# Altium schematic symbol library Regulator_Switching.SchLib: 1279 symbols (part 13 of 14)
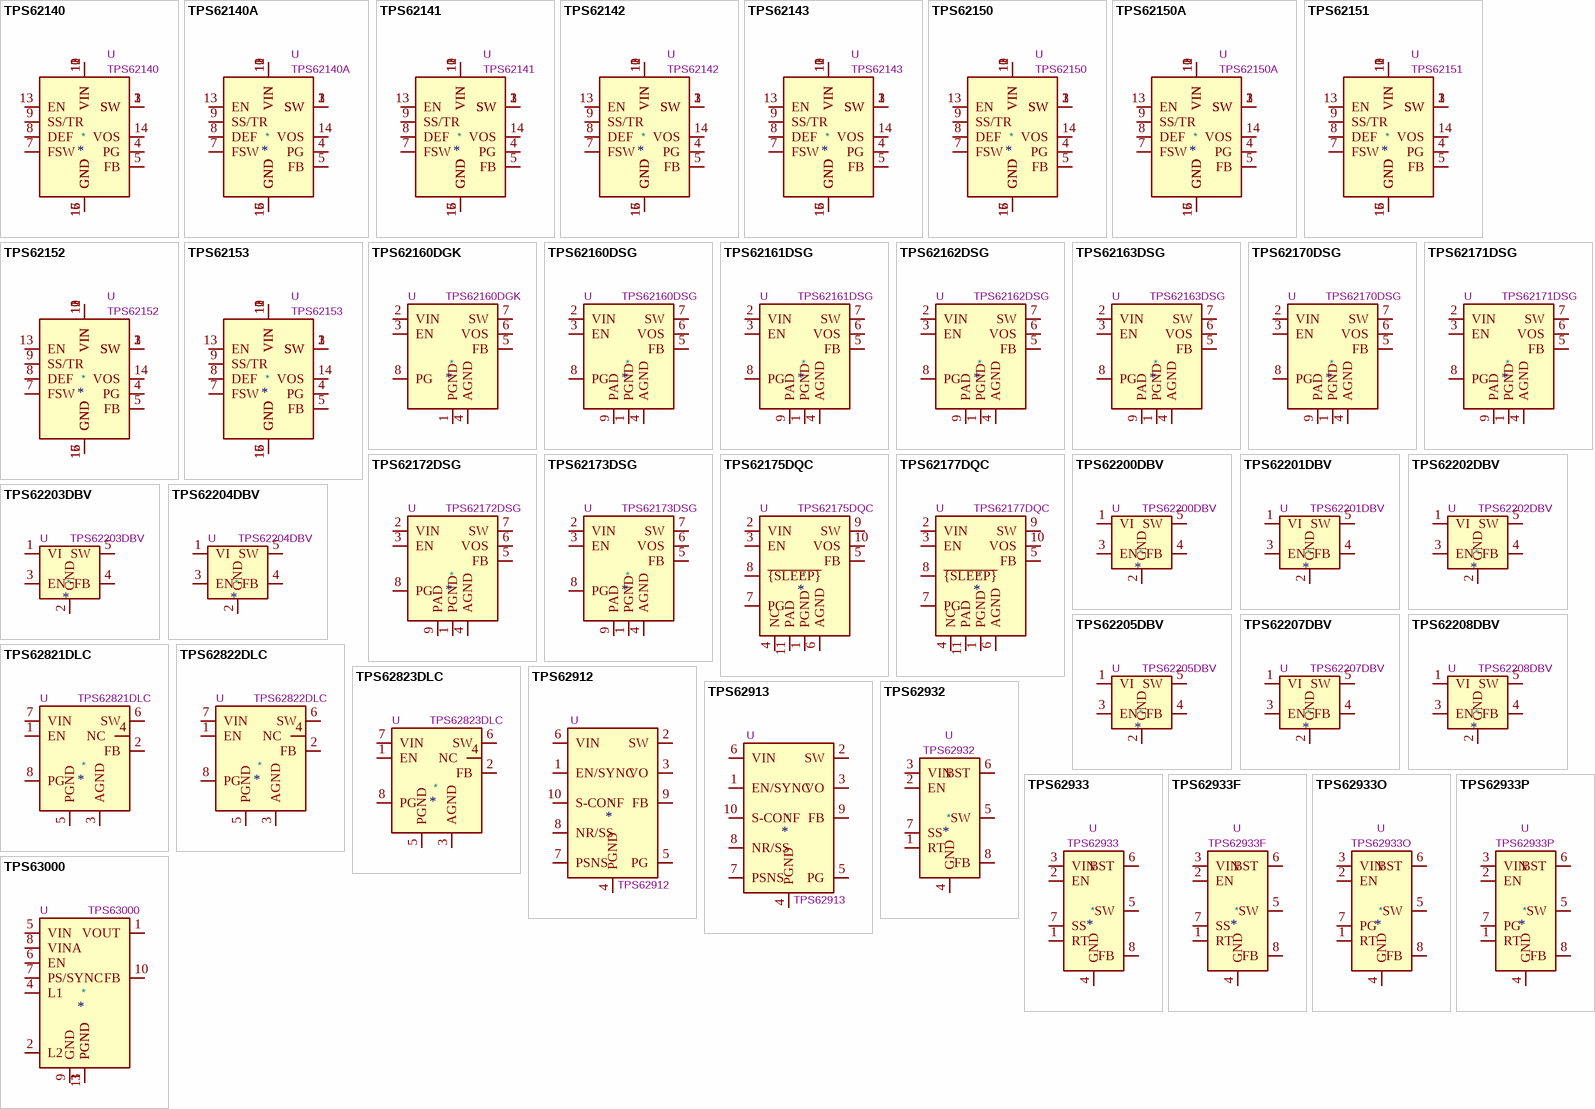
[diagram p44: symbols TPS62140 to TPS63000]

## TPS62912
designator *  value TPS62912  Reference: U
2.2MHz or 1MHz, 2A, Low Noise, Low Ripple, Buck Converter with Integrated Ferrite Bead Filter Compensation, VQFN-HR; ki_keywords: step-down high psrr adjustable; ki_fp_filters: *Texas*RPU0010A*; Footprint: Package_DFN_QFN:Texas_RPU0010A_VQFN-HR-10_2x2mm_P0.5mm; Datasheet: https://www.ti.com/lit/ds/symlink/tps62912.pdf; Description_: 2.2MHz or 1MHz, 2A, Low Noise, Low Ripple, Buck Converter with Integrated Ferrite Bead Filter Compensation, VQFN-HR
pins: 1 EN/SYNC, 2 SW, 3 VO, 4 PGND, 5 PG, 6 VIN, 7 PSNS, 8 NR/SS, 9 FB, 10 S-CONF

## TPS62913
designator *  value TPS62913  Reference: U
2.2MHz or 1MHz, 3A, Low Noise, Low Ripple, Buck Converter with Integrated Ferrite Bead Filter Compensation, VQFN-HR; ki_keywords: step-down high psrr adjustable; ki_fp_filters: *Texas*RPU0010A*; Footprint: Package_DFN_QFN:Texas_RPU0010A_VQFN-HR-10_2x2mm_P0.5mm; Datasheet: https://www.ti.com/lit/ds/symlink/tps62912.pdf; Description_: 2.2MHz or 1MHz, 3A, Low Noise, Low Ripple, Buck Converter with Integrated Ferrite Bead Filter Compensation, VQFN-HR
pins: 1 EN/SYNC, 2 SW, 3 VO, 4 PGND, 5 PG, 6 VIN, 7 PSNS, 8 NR/SS, 9 FB, 10 S-CONF

## TPS62932
designator *  value TPS62932  Reference: U
3.8-30V, 2A  Synchronous Buck Converters with pulse frequency modulation (PFM), SOT583-8; ki_keywords: synchronous buck converter pulse frequency modulation; ki_fp_filters: SOT?583*; Footprint: Package_TO_SOT_SMD:SOT-583-8; Datasheet: https://www.ti.com/lit/ds/symlink/tps62933.pdf; Description_: 3.8-30V, 2A  Synchronous Buck Converters with pulse frequency modulation (PFM), SOT583-8
pins: 1 RT, 2 EN, 3 VIN, 4 GND, 5 SW, 6 BST, 7 SS, 8 FB

## TPS62933
designator *  value TPS62933  Reference: U
3.8-30V, 3A Synchronous Buck Converters with pulse frequency modulation (PFM), SOT583-8; ki_keywords: synchronous buck converter pulse frequency modulation; ki_fp_filters: SOT?583*; Footprint: Package_TO_SOT_SMD:SOT-583-8; Datasheet: https://www.ti.com/lit/ds/symlink/tps62933.pdf; Description_: 3.8-30V, 3A Synchronous Buck Converters with pulse frequency modulation (PFM), SOT583-8
pins: 1 RT, 2 EN, 3 VIN, 4 GND, 5 SW, 6 BST, 7 SS, 8 FB

## TPS62933F
designator *  value TPS62933F  Reference: U
3.8-30V, 3A Synchronous Buck Converters with forced continuous conduction mode (FCCM), SOT583-8; ki_keywords: synchronous buck converter forced continuous conduction mode; ki_fp_filters: SOT?583*; Footprint: Package_TO_SOT_SMD:SOT-583-8; Datasheet: https://www.ti.com/lit/ds/symlink/tps62933.pdf; Description_: 3.8-30V, 3A Synchronous Buck Converters with forced continuous conduction mode (FCCM), SOT583-8
pins: 1 RT, 2 EN, 3 VIN, 4 GND, 5 SW, 6 BST, 7 SS, 8 FB

## TPS62933O
designator *  value TPS62933O  Reference: U
3.8-30V, 3A Synchronous Buck Converters with out of audio (OOA) mode and power good, SOT583-8; ki_keywords: synchronous buck converter out of audio power good; ki_fp_filters: SOT?583*; Footprint: Package_TO_SOT_SMD:SOT-583-8; Datasheet: https://www.ti.com/lit/ds/symlink/tps62933.pdf; Description_: 3.8-30V, 3A Synchronous Buck Converters with out of audio (OOA) mode and power good, SOT583-8
pins: 1 RT, 2 EN, 3 VIN, 4 GND, 5 SW, 6 BST, 7 PG, 8 FB

## TPS62933P
designator *  value TPS62933P  Reference: U
3.8-30V, 3A Synchronous Buck Converters with pulse frequency modulation (PFM) and power good, SOT583-8; ki_keywords: synchronous buck converter pulse frequency modulation power good; ki_fp_filters: SOT?583*; Footprint: Package_TO_SOT_SMD:SOT-583-8; Datasheet: https://www.ti.com/lit/ds/symlink/tps62933.pdf; Description_: 3.8-30V, 3A Synchronous Buck Converters with pulse frequency modulation (PFM) and power good, SOT583-8
pins: 1 RT, 2 EN, 3 VIN, 4 GND, 5 SW, 6 BST, 7 PG, 8 FB

## TPS63000
designator *  value TPS63000  Reference: U
Buck-Boost Converter, 1.8-5.5V Input Voltage, 1.8A Switch Current, Adjustable 1.2-5.5V Output Voltage, VSON-10; ki_keywords: Buck-Boost adjustable converter; ki_fp_filters: Texas*DRC0010J*; Footprint: Package_SON:Texas_DRC0010J_ThermalVias; Datasheet: http://www.ti.com/lit/ds/symlink/tps63000.pdf; Description_: Buck-Boost Converter, 1.8-5.5V Input Voltage, 1.8A Switch Current, Adjustable 1.2-5.5V Output Voltage, VSON-10
pins: 1 VOUT, 2 L2, 3 PGND, 4 L1, 5 VIN, 6 EN, 7 PS/SYNC, 8 VINA, 9 GND, 10 FB, 11 PGND

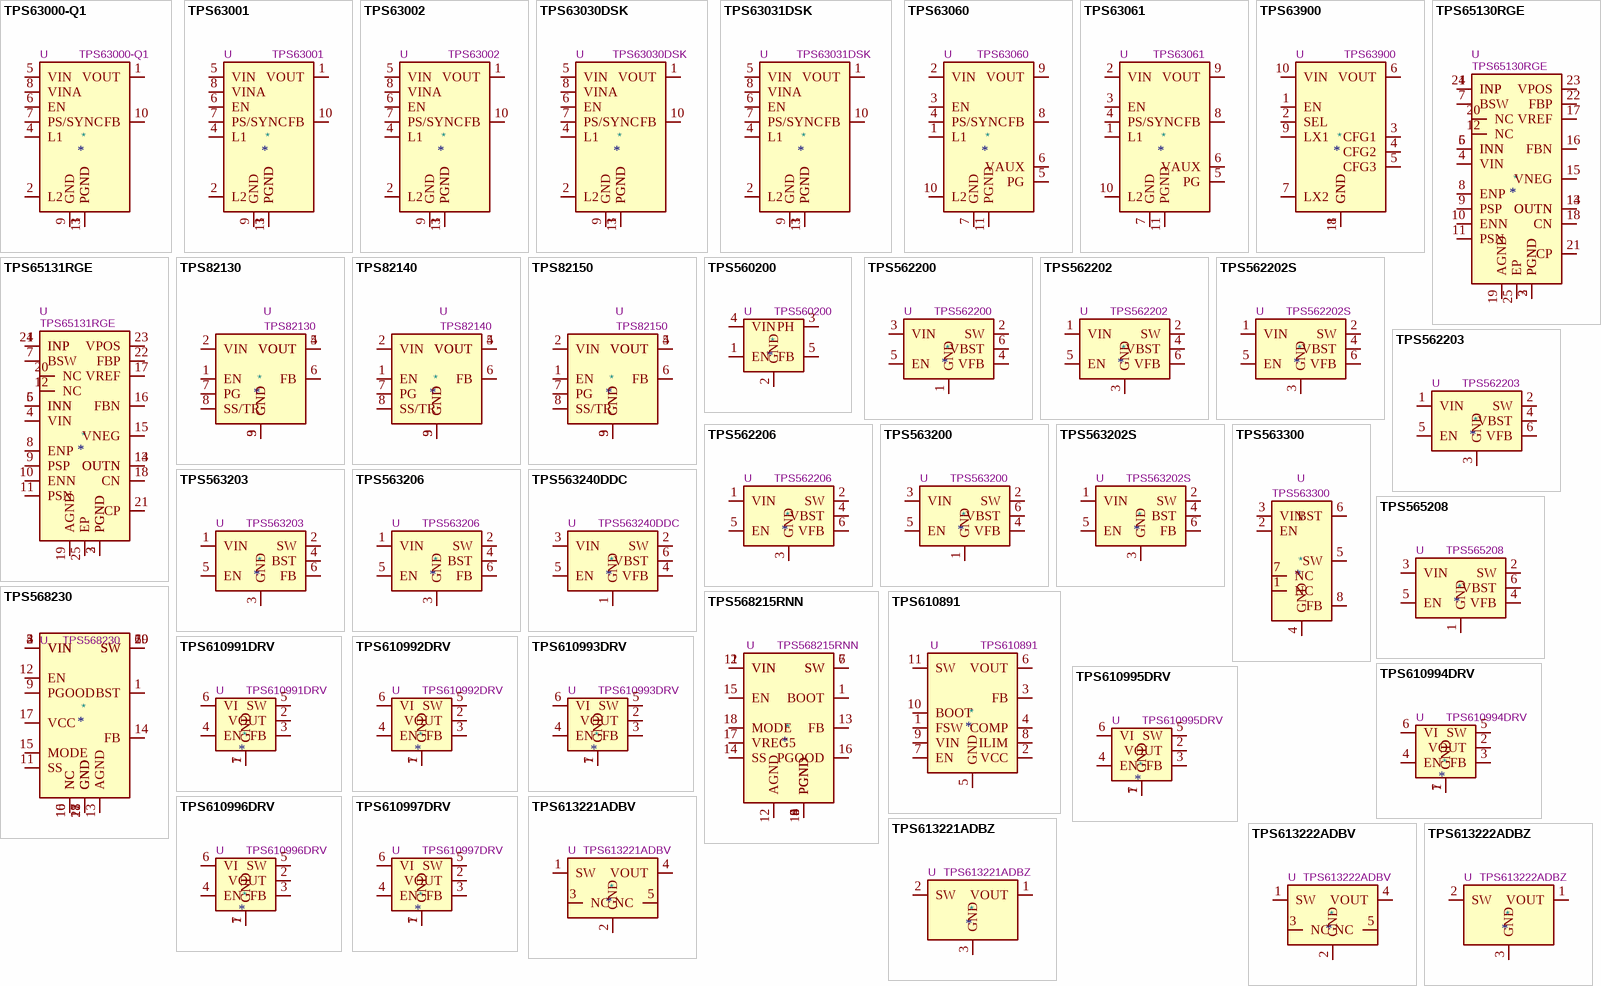
[diagram p29: symbols TPS63000-Q1 to TPS613222ADBZ]

## TPS63000-Q1
designator *  value TPS63000-Q1  Reference: U
Buck-Boost Converter, 1.8-5.5V Input Voltage, 1.8A Switch Current, Adjustable 1.2-5.5V Output Voltage, Automotive, VSON-10; ki_keywords: Buck-Boost adjustable converter; ki_fp_filters: Texas*DRC0010J*; Footprint: Package_SON:Texas_DRC0010J_ThermalVias; Datasheet: http://www.ti.com/lit/ds/symlink/tps63000-q1.pdf; Description_: Buck-Boost Converter, 1.8-5.5V Input Voltage, 1.8A Switch Current, Adjustable 1.2-5.5V Output Voltage, Automotive, VSON-10
pins: 1 VOUT, 2 L2, 3 PGND, 4 L1, 5 VIN, 6 EN, 7 PS/SYNC, 8 VINA, 9 GND, 10 FB, 11 PGND

## TPS63001
designator *  value TPS63001  Reference: U
Buck-Boost Converter, 1.8-5.5V Input Voltage, 1.7A Switch Current, 3.3V Output Voltage, VSON-10; ki_keywords: Buck-Boost fixed 3.3V converter; ki_fp_filters: Texas*DRC0010J*; Footprint: Package_SON:Texas_DRC0010J_ThermalVias; Datasheet: http://www.ti.com/lit/ds/symlink/tps63000.pdf; Description_: Buck-Boost Converter, 1.8-5.5V Input Voltage, 1.7A Switch Current, 3.3V Output Voltage, VSON-10
pins: 1 VOUT, 2 L2, 3 PGND, 4 L1, 5 VIN, 6 EN, 7 PS/SYNC, 8 VINA, 9 GND, 10 FB, 11 PGND

## TPS63002
designator *  value TPS63002  Reference: U
Buck-Boost Converter, 1.8-5.5V Input Voltage, 1.7A Switch Current, 5V Output Voltage, VSON-10; ki_keywords: Buck-Boost fixed 5V converter; ki_fp_filters: Texas*DRC0010J*; Footprint: Package_SON:Texas_DRC0010J_ThermalVias; Datasheet: http://www.ti.com/lit/ds/symlink/tps63000.pdf; Description_: Buck-Boost Converter, 1.8-5.5V Input Voltage, 1.7A Switch Current, 5V Output Voltage, VSON-10
pins: 1 VOUT, 2 L2, 3 PGND, 4 L1, 5 VIN, 6 EN, 7 PS/SYNC, 8 VINA, 9 GND, 10 FB, 11 PGND

## TPS63030DSK
designator *  value TPS63030DSK  Reference: U
Buck-Boost Converter, 1.8-5.5V Input Voltage, 1A Switch Current, Adjustable Output Voltage, VSON-10 (DSK0010A); ki_keywords: Buck-Boost adjustable converter; ki_fp_filters: WSON*1EP*2.5x2.5mm*P0.5mm*EP1.2x2mm*; Footprint: Package_SON:WSON-10-1EP_2.5x2.5mm_P0.5mm_EP1.2x2mm; Datasheet: http://www.ti.com/lit/ds/symlink/tps63030.pdf; Description_: Buck-Boost Converter, 1.8-5.5V Input Voltage, 1A Switch Current, Adjustable Output Voltage, VSON-10 (DSK0010A)
pins: 1 VOUT, 2 L2, 3 PGND, 4 L1, 5 VIN, 6 EN, 7 PS/SYNC, 8 VINA, 9 GND, 10 FB, 11 PGND

## TPS63031DSK
designator *  value TPS63031DSK  Reference: U
Buck-Boost Converter, 1.8-5.5V Input Voltage, 1A Switch Current, 3.3V Output Voltage, VSON-10 (DSK0010A); ki_keywords: Buck-Boost fixed 3.3V converter; ki_fp_filters: WSON*1EP*2.5x2.5mm*P0.5mm*EP1.2x2mm*; Footprint: Package_SON:WSON-10-1EP_2.5x2.5mm_P0.5mm_EP1.2x2mm; Datasheet: http://www.ti.com/lit/ds/symlink/tps63031.pdf; Description_: Buck-Boost Converter, 1.8-5.5V Input Voltage, 1A Switch Current, 3.3V Output Voltage, VSON-10 (DSK0010A)
pins: 1 VOUT, 2 L2, 3 PGND, 4 L1, 5 VIN, 6 EN, 7 PS/SYNC, 8 VINA, 9 GND, 10 FB, 11 PGND

## TPS63060
designator *  value TPS63060  Reference: U
Buck-Boost Converter, 2.5-12V Input Voltage, 2-A Switch Current, Adjustable 2.5-8V Output Voltage, S-PWSON-N10; ki_keywords: Buck-Boost adjustable converter; ki_fp_filters: Texas*S*PWSON*N10*; Footprint: Package_SON:Texas_S-PWSON-N10_ThermalVias; Datasheet: http://www.ti.com/lit/ds/symlink/tps63060.pdf; Description_: Buck-Boost Converter, 2.5-12V Input Voltage, 2-A Switch Current, Adjustable 2.5-8V Output Voltage, S-PWSON-N10
pins: 1 L1, 2 VIN, 3 EN, 4 PS/SYNC, 5 PG, 6 VAUX, 7 GND, 8 FB, 9 VOUT, 10 L2, 11 PGND

## TPS63061
designator *  value TPS63061  Reference: U
Buck-Boost Converter, 2.5-12V Input Voltage, 2-A Switch Current, Fixed 5V Output Voltage, S-PWSON-10; ki_keywords: Buck-Boost converter 5V; ki_fp_filters: Texas*S*PWSON*N10*; Footprint: Package_SON:Texas_S-PWSON-N10_ThermalVias; Datasheet: http://www.ti.com/lit/ds/symlink/tps63060.pdf; Description_: Buck-Boost Converter, 2.5-12V Input Voltage, 2-A Switch Current, Fixed 5V Output Voltage, S-PWSON-10
pins: 1 L1, 2 VIN, 3 EN, 4 PS/SYNC, 5 PG, 6 VAUX, 7 GND, 8 FB, 9 VOUT, 10 L2, 11 PGND

## TPS63900
designator *  value TPS63900  Reference: U
Buck-Boost Converter, 1.8-5.5V Input Voltage, 0.4A Switch Current, Adjustable 1.8-5V Output Voltage, WSON-10; ki_keywords: Buck-Boost adjustable converter; ki_fp_filters: WSON*10*1EP*2.5x2.5*P0.5*; Footprint: Package_SON:WSON-10-1EP_2.5x2.5mm_P0.5mm_EP1.2x2mm_ThermalVias; Datasheet: https://www.ti.com/lit/ds/symlink/tps63900.pdf; Description_: Buck-Boost Converter, 1.8-5.5V Input Voltage, 0.4A Switch Current, Adjustable 1.8-5V Output Voltage, WSON-10
pins: 1 EN, 2 SEL, 3 CFG1, 4 CFG2, 5 CFG3, 6 VOUT, 7 LX2, 8 GND, 9 LX1, 10 VIN, 11 GND

## TPS65130RGE
designator *  value TPS65130RGE  Reference: U
Split-Rail Converter with Dual, Positive and Negative Outputs (300mA typ, Switch Current Limit 800mA typ), 2.7-5.5V, VQFN-24; ki_keywords: split-rail switching dual positive negative; ki_fp_filters: VQFN*1EP*4x4mm*P0.5mm*; Footprint: Package_DFN_QFN:VQFN-24-1EP_4x4mm_P0.5mm_EP2.45x2.45mm_ThermalVias; Datasheet: http://www.ti.com/lit/ds/symlink/tps65130.pdf; Description_: Split-Rail Converter with Dual, Positive and Negative Outputs (300mA typ, Switch Current Limit 800mA typ), 2.7-5.5V, VQFN-24
pins: 1 INP, 2 PGND, 3 PGND, 4 VIN, 5 INN, 6 INN, 7 BSW, 8 ENP, 9 PSP, 10 ENN, 11 PSN, 12 NC, 13 OUTN, 14 OUTN, 15 VNEG, 16 FBN, 17 VREF, 18 CN, 19 AGND, 20 NC, 21 CP, 22 FBP, 23 VPOS, 24 INP, 25 EP

## TPS65131RGE
designator *  value TPS65131RGE  Reference: U
Split-Rail Converter with Dual, Positive and Negative Outputs (750mA typ, Switch Current Limit 1950mA typ),), 2.7-5.5V, VQFN-24; ki_keywords: split-rail switching dual positive negative; ki_fp_filters: VQFN*1EP*4x4mm*P0.5mm*; Footprint: Package_DFN_QFN:VQFN-24-1EP_4x4mm_P0.5mm_EP2.45x2.45mm_ThermalVias; Datasheet: http://www.ti.com/lit/ds/symlink/tps65130.pdf; Description_: Split-Rail Converter with Dual, Positive and Negative Outputs (750mA typ, Switch Current Limit 1950mA typ),), 2.7-5.5V, VQFN-24
pins: 1 INP, 2 PGND, 3 PGND, 4 VIN, 5 INN, 6 INN, 7 BSW, 8 ENP, 9 PSP, 10 ENN, 11 PSN, 12 NC, 13 OUTN, 14 OUTN, 15 VNEG, 16 FBN, 17 VREF, 18 CN, 19 AGND, 20 NC, 21 CP, 22 FBP, 23 VPOS, 24 INP, 25 EP

## TPS82130
designator *  value TPS82130  Reference: U
17V Input 3A Step-Down Converter MicroSiP Module with Integrated Inductor, μSiL-8; ki_keywords: 17V 3A Step-down Buck Module; ki_fp_filters: Texas*MicroSiP*1EP*2.8x3mm*P0.65mm*; Footprint: Package_LGA:Texas_SIL0008D_MicroSiP-8-1EP_2.8x3mm_P0.65mm_EP1.1x1.9mm_ThermalVias; Datasheet: http://www.ti.com/lit/ds/symlink/tps82130.pdf; Description_: 17V Input 3A Step-Down Converter MicroSiP Module with Integrated Inductor, μSiL-8
pins: 1 EN, 2 VIN, 3 GND, 4 VOUT, 5 VOUT, 6 FB, 7 PG, 8 SS/TR, 9 GND

## TPS82140
designator *  value TPS82140  Reference: U
17V Input 2A Step-Down Converter MicroSiP Module with Integrated Inductor, μSiL-8; ki_keywords: 17V 2A Step-down Buck Module; ki_fp_filters: Texas*MicroSiP*1EP*2.8x3mm*P0.65mm*; Footprint: Package_LGA:Texas_SIL0008D_MicroSiP-8-1EP_2.8x3mm_P0.65mm_EP1.1x1.9mm_ThermalVias; Datasheet: http://www.ti.com/lit/ds/symlink/tps82140.pdf; Description_: 17V Input 2A Step-Down Converter MicroSiP Module with Integrated Inductor, μSiL-8
pins: 1 EN, 2 VIN, 3 GND, 4 VOUT, 5 VOUT, 6 FB, 7 PG, 8 SS/TR, 9 GND

## TPS82150
designator *  value TPS82150  Reference: U
17V Input 1A Step-Down Converter MicroSiP Module with Integrated Inductor, μSiL-8; ki_keywords: 17V 1A Step-down Buck Module; ki_fp_filters: Texas*MicroSiP*1EP*2.8x3mm*P0.65mm*; Footprint: Package_LGA:Texas_SIL0008D_MicroSiP-8-1EP_2.8x3mm_P0.65mm_EP1.1x1.9mm_ThermalVias; Datasheet: http://www.ti.com/lit/ds/symlink/tps82150.pdf; Description_: 17V Input 1A Step-Down Converter MicroSiP Module with Integrated Inductor, μSiL-8
pins: 1 EN, 2 VIN, 3 GND, 4 VOUT, 5 VOUT, 6 FB, 7 PG, 8 SS/TR, 9 GND

## TPS560200
designator *  value TPS560200  Reference: U
500mA, Synchronous Step-Down Converter With, Adjustable Output Voltage, 4.5-17V Input Voltage, SOT-23-5; ki_keywords: Voltage regulator switching buck fixed output analog; ki_fp_filters: SOT?23*; Footprint: Package_TO_SOT_SMD:SOT-23-5; Datasheet: http://www.ti.com/lit/ds/symlink/tps560200.pdf; Description_: 500mA, Synchronous Step-Down Converter With, Adjustable Output Voltage, 4.5-17V Input Voltage, SOT-23-5
pins: 1 EN, 2 GND, 3 PH, 4 VIN, 5 FB

## TPS562200
designator *  value TPS562200  Reference: U
2A Synchronous Step-Down Voltage Regulator, Adjustable Output Voltage, 4.5-17V Input Voltage, SOT-23-6; ki_keywords: step-down dcdc voltage regulator; ki_fp_filters: SOT?23*; Footprint: Package_TO_SOT_SMD:SOT-23-6; Datasheet: http://www.ti.com/lit/ds/symlink/tps563200.pdf; Description_: 2A Synchronous Step-Down Voltage Regulator, Adjustable Output Voltage, 4.5-17V Input Voltage, SOT-23-6
pins: 1 GND, 2 SW, 3 VIN, 4 VFB, 5 EN, 6 VBST

## TPS562202
designator *  value TPS562202  Reference: U
2A Synchronous Step-Down Voltage Regulator 580kHz, adjustable output voltage, 4.5-17V Input Voltage, 0.804V-7V Output Voltage, SOT-563; ki_keywords: step-down dcdc buck; ki_fp_filters: SOT?563*; Footprint: Package_TO_SOT_SMD:SOT-563; Datasheet: https://www.ti.com/lit/gpn/tps562202; Description_: 2A Synchronous Step-Down Voltage Regulator 580kHz, adjustable output voltage, 4.5-17V Input Voltage, 0.804V-7V Output Voltage, SOT-563
pins: 1 VIN, 2 SW, 3 GND, 4 VBST, 5 EN, 6 VFB

## TPS562202S
designator *  value TPS562202S  Reference: U
2A Synchronous Step-Down Voltage Regulator 580kHz, Adjustable Output Voltage, 4.5-17V Input Voltage, 0.804V-7V Output Voltage, SOT-563; ki_keywords: step-down dcdc buck; ki_fp_filters: SOT?563*; Footprint: Package_TO_SOT_SMD:SOT-563; Datasheet: https://www.ti.com/lit/ds/symlink/tps562202s.pdf; Description_: 2A Synchronous Step-Down Voltage Regulator 580kHz, Adjustable Output Voltage, 4.5-17V Input Voltage, 0.804V-7V Output Voltage, SOT-563
pins: 1 VIN, 2 SW, 3 GND, 4 VBST, 5 EN, 6 VFB

## TPS562203
designator *  value TPS562203  Reference: U
2A Synchronous Step-Down Voltage Regulator 600kHz, Adjustable Output Voltage, 4.5-17V Input Voltage, 0.6V-7V Output Voltage, SOT-563; ki_keywords: step-down dcdc buck; ki_fp_filters: SOT?563*; Footprint: Package_TO_SOT_SMD:SOT-563; Datasheet: https://www.ti.com/lit/ds/symlink/tps562203.pdf; Description_: 2A Synchronous Step-Down Voltage Regulator 600kHz, Adjustable Output Voltage, 4.5-17V Input Voltage, 0.6V-7V Output Voltage, SOT-563
pins: 1 VIN, 2 SW, 3 GND, 4 VBST, 5 EN, 6 VFB

## TPS562206
designator *  value TPS562206  Reference: U
2A Synchronous Step-Down Voltage Regulator 600kHz, Adjustable Output Voltage, 4.5-17V Input Voltage, 0.6V-7V Output Voltage, SOT-563; ki_keywords: step-down dcdc buck; ki_fp_filters: SOT?563*; Footprint: Package_TO_SOT_SMD:SOT-563; Datasheet: https://www.ti.com/lit/ds/symlink/tps562203.pdf; Description_: 2A Synchronous Step-Down Voltage Regulator 600kHz, Adjustable Output Voltage, 4.5-17V Input Voltage, 0.6V-7V Output Voltage, SOT-563
pins: 1 VIN, 2 SW, 3 GND, 4 VBST, 5 EN, 6 VFB

## TPS563200
designator *  value TPS563200  Reference: U
3A Synchronous Step-Down Voltage Regulator, Adjustable Output Voltage, 4.5-17V Input Voltage, SOT-23-6; ki_keywords: step-down dcdc voltage regulator; ki_fp_filters: SOT?23*; Footprint: Package_TO_SOT_SMD:SOT-23-6; Datasheet: http://www.ti.com/lit/ds/symlink/tps563200.pdf; Description_: 3A Synchronous Step-Down Voltage Regulator, Adjustable Output Voltage, 4.5-17V Input Voltage, SOT-23-6
pins: 1 GND, 2 SW, 3 VIN, 4 VFB, 5 EN, 6 VBST

## TPS563202S
designator *  value TPS563202S  Reference: U
3A Synchronous Step-Down Voltage Regulator, Adjustable Output Voltage, 4.3-17V Input Voltage, 0.806-7V Output Voltage, SOT-563; ki_keywords: step-down dcdc voltage regulator; ki_fp_filters: SOT?563*; Footprint: Package_TO_SOT_SMD:SOT-563; Datasheet: https://www.ti.com/lit/ds/symlink/tps563202s.pdf; Description_: 3A Synchronous Step-Down Voltage Regulator, Adjustable Output Voltage, 4.3-17V Input Voltage, 0.806-7V Output Voltage, SOT-563
pins: 1 VIN, 2 SW, 3 GND, 4 BST, 5 EN, 6 FB

## TPS563203
designator *  value TPS563203  Reference: U
3A Synchronous Step-Down Voltage Regulator, Adjustable Output Voltage, 4.2-17V Input Voltage, 0.6-7V Output Voltage, Eco mode, SOT-563; ki_keywords: step-down dcdc voltage regulator; ki_fp_filters: SOT?563*; Footprint: Package_TO_SOT_SMD:SOT-563; Datasheet: https://www.ti.com/lit/ds/symlink/tps563203.pdf; Description_: 3A Synchronous Step-Down Voltage Regulator, Adjustable Output Voltage, 4.2-17V Input Voltage, 0.6-7V Output Voltage, Eco mode, SOT-563
pins: 1 VIN, 2 SW, 3 GND, 4 BST, 5 EN, 6 FB

## TPS563206
designator *  value TPS563206  Reference: U
3A Synchronous Step-Down Voltage Regulator, Adjustable Output Voltage, 4.2-17V Input Voltage, 0.6-7V Output Voltage, FCCM mode, SOT-563; ki_keywords: step-down dcdc voltage regulator; ki_fp_filters: SOT?563*; Footprint: Package_TO_SOT_SMD:SOT-563; Datasheet: https://www.ti.com/lit/ds/symlink/tps563206.pdf; Description_: 3A Synchronous Step-Down Voltage Regulator, Adjustable Output Voltage, 4.2-17V Input Voltage, 0.6-7V Output Voltage, FCCM mode, SOT-563
pins: 1 VIN, 2 SW, 3 GND, 4 BST, 5 EN, 6 FB

## TPS563240DDC
designator *  value TPS563240DDC  Reference: U
3A Synchronous Step-Down Voltage Regulator, Adjustable Output Voltage, 4.5-17V Input Voltage, SOT-23-6; ki_keywords: step-down dcdc voltage regulator; ki_fp_filters: SOT?23*; Footprint: Package_TO_SOT_SMD:SOT-23-6; Datasheet: www.ti.com/lit/ds/symlink/tps563240.pdf; Description_: 3A Synchronous Step-Down Voltage Regulator, Adjustable Output Voltage, 4.5-17V Input Voltage, SOT-23-6
pins: 1 GND, 2 SW, 3 VIN, 4 VFB, 5 EN, 6 VBST

## TPS563300
designator *  value TPS563300  Reference: U
3.8-28V, 3A Synchronous Buck Converters with pulse frequency modulation (PFM), SOT583-8; ki_keywords: synchronous buck converter pulse frequency modulation; ki_fp_filters: SOT?583*; Footprint: Package_TO_SOT_SMD:SOT-583-8; Datasheet: https://www.ti.com/lit/ds/symlink/tps563300.pdf; Description_: 3.8-28V, 3A Synchronous Buck Converters with pulse frequency modulation (PFM), SOT583-8
pins: 1 NC, 2 EN, 3 VIN, 4 GND, 5 SW, 6 BST, 7 NC, 8 FB

## TPS565208
designator *  value TPS565208  Reference: U
5A Synchronous Step-Down Voltage Regulator, Adjustable Output Voltage, 4.5-17V Input Voltage, SOT-23-6; ki_keywords: step-down dcdc voltage regulator; ki_fp_filters: SOT?23*; Footprint: Package_TO_SOT_SMD:SOT-23-6; Datasheet: http://www.ti.com/lit/ds/symlink/tps565208.pdf; Description_: 5A Synchronous Step-Down Voltage Regulator, Adjustable Output Voltage, 4.5-17V Input Voltage, SOT-23-6
pins: 1 GND, 2 SW, 3 VIN, 4 VFB, 5 EN, 6 VBST

## TPS568215RNN
designator *  value TPS568215RNN  Reference: U
4.5V-17V Input, 8A Synchronous Step-Down SWIFT Converter, Adjustable Output, 400kHz/800kHz/1.2MHz Switching Frequency, Texas VQFN-18; ki_keywords: switching buck converter step-down; ki_fp_filters: Texas*RNN0018A*; Footprint: Package_DFN_QFN:Texas_RNN0018A; Datasheet: http://www.ti.com/lit/ds/symlink/tps568215.pdf; Description_: 4.5V-17V Input, 8A Synchronous Step-Down SWIFT Converter, Adjustable Output, 400kHz/800kHz/1.2MHz Switching Frequency, Texas VQFN-18
pins: 1 BOOT, 2 VIN, 3 PGND, 4 PGND, 5 PGND, 6 SW, 7 SW, 8 PGND, 9 PGND, 10 PGND, 11 VIN, 12 AGND, 13 FB, 14 SS, 15 EN, 16 PGOOD, 17 VREG5, 18 MODE

## TPS568230
designator *  value TPS568230  Reference: U
4.5V to 18V Input, 8A Synchronous Step-Down Voltage Regulator, VQFN-20; ki_keywords: switching DC-DC-converter; ki_fp_filters: Texas*RJE0020A*VQFN*1EP*3x3mm*P0.45mm*EP0.675x0.76mm*; Footprint: Package_DFN_QFN:Texas_RJE0020A_VQFN-20-1EP_3x3mm_P0.45mm_EP0.675x0.76mm; Datasheet: https://www.ti.com/lit/gpn/tps568230; Description_: 4.5V to 18V Input, 8A Synchronous Step-Down Voltage Regulator, VQFN-20
pins: 1 BST, 2 VIN, 3 VIN, 4 VIN, 5 VIN, 6 SW, 7 GND, 8 GND, 9 PGOOD, 10 NC, 11 SS, 12 EN, 13 AGND, 14 FB, 15 MODE, 16 NC, 17 VCC, 18 GND, 19 SW, 20 SW, 21 GND

## TPS610891
designator *  value TPS610891  Reference: U
7A Boost Converters, Adjustable output voltage (ForcedPWM), input 2.7 to 12V , output 4.5 to 12.6V, VQFN-11; ki_keywords: Adjustable 7A boost converter; ki_fp_filters: Texas*VQFN?RNR0011A?11*; Footprint: Package_DFN_QFN:Texas_VQFN-RNR0011A-11; Datasheet: http://www.ti.com/lit/ds/symlink/tps61089.pdf; Description_: 7A Boost Converters, Adjustable output voltage (ForcedPWM), input 2.7 to 12V , output 4.5 to 12.6V, VQFN-11
pins: 1 FSW, 2 VCC, 3 FB, 4 COMP, 5 GND, 6 VOUT, 7 EN, 8 ILIM, 9 VIN, 10 BOOT, 11 SW

## TPS610991DRV
designator *  value TPS610991DRV  Reference: U
Boost Converter, 0.7-5.5V Input Voltage, 1A Switch Current, Fixed 1.8V Output Voltage, WSON-6; ki_keywords: Step-Up DC-DC Converter; ki_fp_filters: WSON*1EP*2x2mm*P0.65mm*; Footprint: Package_SON:WSON-6-1EP_2x2mm_P0.65mm_EP1x1.6mm; Datasheet: https://www.ti.com/lit/gpn/TPS61099; Description_: Boost Converter, 0.7-5.5V Input Voltage, 1A Switch Current, Fixed 1.8V Output Voltage, WSON-6
pins: 1 GND, 2 VOUT, 3 FB, 4 EN, 5 SW, 6 VI, 7 GND

## TPS610992DRV
designator *  value TPS610992DRV  Reference: U
Boost Converter, 0.7-5.5V Input Voltage, 1A Switch Current, Fixed 2.5V Output Voltage, WSON-6; ki_keywords: Step-Up DC-DC Converter; ki_fp_filters: WSON*1EP*2x2mm*P0.65mm*; Footprint: Package_SON:WSON-6-1EP_2x2mm_P0.65mm_EP1x1.6mm; Datasheet: https://www.ti.com/lit/gpn/TPS61099; Description_: Boost Converter, 0.7-5.5V Input Voltage, 1A Switch Current, Fixed 2.5V Output Voltage, WSON-6
pins: 1 GND, 2 VOUT, 3 FB, 4 EN, 5 SW, 6 VI, 7 GND

## TPS610993DRV
designator *  value TPS610993DRV  Reference: U
Boost Converter, 0.7-5.5V Input Voltage, 1A Switch Current, Fixed 3V Output Voltage, WSON-6; ki_keywords: Step-Up DC-DC Converter; ki_fp_filters: WSON*1EP*2x2mm*P0.65mm*; Footprint: Package_SON:WSON-6-1EP_2x2mm_P0.65mm_EP1x1.6mm; Datasheet: https://www.ti.com/lit/gpn/TPS61099; Description_: Boost Converter, 0.7-5.5V Input Voltage, 1A Switch Current, Fixed 3V Output Voltage, WSON-6
pins: 1 GND, 2 VOUT, 3 FB, 4 EN, 5 SW, 6 VI, 7 GND

## TPS610994DRV
designator *  value TPS610994DRV  Reference: U
Boost Converter, 0.7-5.5V Input Voltage, 1A Switch Current, Fixed 3.3V Output Voltage, WSON-6; ki_keywords: Step-Up DC-DC Converter; ki_fp_filters: WSON*1EP*2x2mm*P0.65mm*; Footprint: Package_SON:WSON-6-1EP_2x2mm_P0.65mm_EP1x1.6mm; Datasheet: https://www.ti.com/lit/gpn/TPS61099; Description_: Boost Converter, 0.7-5.5V Input Voltage, 1A Switch Current, Fixed 3.3V Output Voltage, WSON-6
pins: 1 GND, 2 VOUT, 3 FB, 4 EN, 5 SW, 6 VI, 7 GND

## TPS610995DRV
designator *  value TPS610995DRV  Reference: U
Boost Converter, 0.7-5.5V Input Voltage, 1A Switch Current, Fixed 3.6V Output Voltage, WSON-6; ki_keywords: Step-Up DC-DC Converter; ki_fp_filters: WSON*1EP*2x2mm*P0.65mm*; Footprint: Package_SON:WSON-6-1EP_2x2mm_P0.65mm_EP1x1.6mm; Datasheet: https://www.ti.com/lit/gpn/TPS61099; Description_: Boost Converter, 0.7-5.5V Input Voltage, 1A Switch Current, Fixed 3.6V Output Voltage, WSON-6
pins: 1 GND, 2 VOUT, 3 FB, 4 EN, 5 SW, 6 VI, 7 GND

## TPS610996DRV
designator *  value TPS610996DRV  Reference: U
Boost Converter, 0.7-5.5V Input Voltage, 1A Switch Current, Fixed 4.5V Output Voltage, WSON-6; ki_keywords: Step-Up DC-DC Converter; ki_fp_filters: WSON*1EP*2x2mm*P0.65mm*; Footprint: Package_SON:WSON-6-1EP_2x2mm_P0.65mm_EP1x1.6mm; Datasheet: https://www.ti.com/lit/gpn/TPS61099; Description_: Boost Converter, 0.7-5.5V Input Voltage, 1A Switch Current, Fixed 4.5V Output Voltage, WSON-6
pins: 1 GND, 2 VOUT, 3 FB, 4 EN, 5 SW, 6 VI, 7 GND

## TPS610997DRV
designator *  value TPS610997DRV  Reference: U
Boost Converter, 0.7-5.5V Input Voltage, 1A Switch Current, 5V Fixed Output Voltage, WSON-6; ki_keywords: Step-Up DC-DC Converter; ki_fp_filters: WSON*1EP*2x2mm*P0.65mm*; Footprint: Package_SON:WSON-6-1EP_2x2mm_P0.65mm_EP1x1.6mm; Datasheet: https://www.ti.com/lit/gpn/TPS61099; Description_: Boost Converter, 0.7-5.5V Input Voltage, 1A Switch Current, 5V Fixed Output Voltage, WSON-6
pins: 1 GND, 2 VOUT, 3 FB, 4 EN, 5 SW, 6 VI, 7 GND

## TPS613221ADBV
designator *  value TPS613221ADBV  Reference: U
1.2A Step-Up Converter, 3.3V Output Voltage, 0.9-5.5V Input Voltage, SOT-23-5; ki_keywords: Boost converter; ki_fp_filters: SOT?23*; Footprint: Package_TO_SOT_SMD:SOT-23-5; Datasheet: http://www.ti.com/lit/ds/symlink/tps61322.pdf; Description_: 1.2A Step-Up Converter, 3.3V Output Voltage, 0.9-5.5V Input Voltage, SOT-23-5
pins: 1 SW, 2 GND, 3 NC, 4 VOUT, 5 NC

## TPS613221ADBZ
designator *  value TPS613221ADBZ  Reference: U
1.2A Step-Up Converter, 3.3V Output Voltage, 0.9-5.5V Input Voltage, SOT-23; ki_keywords: Boost converter; ki_fp_filters: SOT?23*; Footprint: Package_TO_SOT_SMD:SOT-23; Datasheet: http://www.ti.com/lit/ds/symlink/tps61322.pdf; Description_: 1.2A Step-Up Converter, 3.3V Output Voltage, 0.9-5.5V Input Voltage, SOT-23
pins: 1 VOUT, 2 SW, 3 GND

## TPS613222ADBV
designator *  value TPS613222ADBV  Reference: U
1.8A Step-Up Converter, 5V Output Voltage, 0.9-5.5V Input Voltage, SOT-23-5; ki_keywords: Boost converter; ki_fp_filters: SOT?23*; Footprint: Package_TO_SOT_SMD:SOT-23-5; Datasheet: http://www.ti.com/lit/ds/symlink/tps61322.pdf; Description_: 1.8A Step-Up Converter, 5V Output Voltage, 0.9-5.5V Input Voltage, SOT-23-5
pins: 1 SW, 2 GND, 3 NC, 4 VOUT, 5 NC

## TPS613222ADBZ
designator *  value TPS613222ADBZ  Reference: U
1.8A Step-Up Converter, 5V Output Voltage, 0.9-5.5V Input Voltage, SOT-23; ki_keywords: Boost converter; ki_fp_filters: SOT?23*; Footprint: Package_TO_SOT_SMD:SOT-23; Datasheet: http://www.ti.com/lit/ds/symlink/tps61322.pdf; Description_: 1.8A Step-Up Converter, 5V Output Voltage, 0.9-5.5V Input Voltage, SOT-23
pins: 1 VOUT, 2 SW, 3 GND

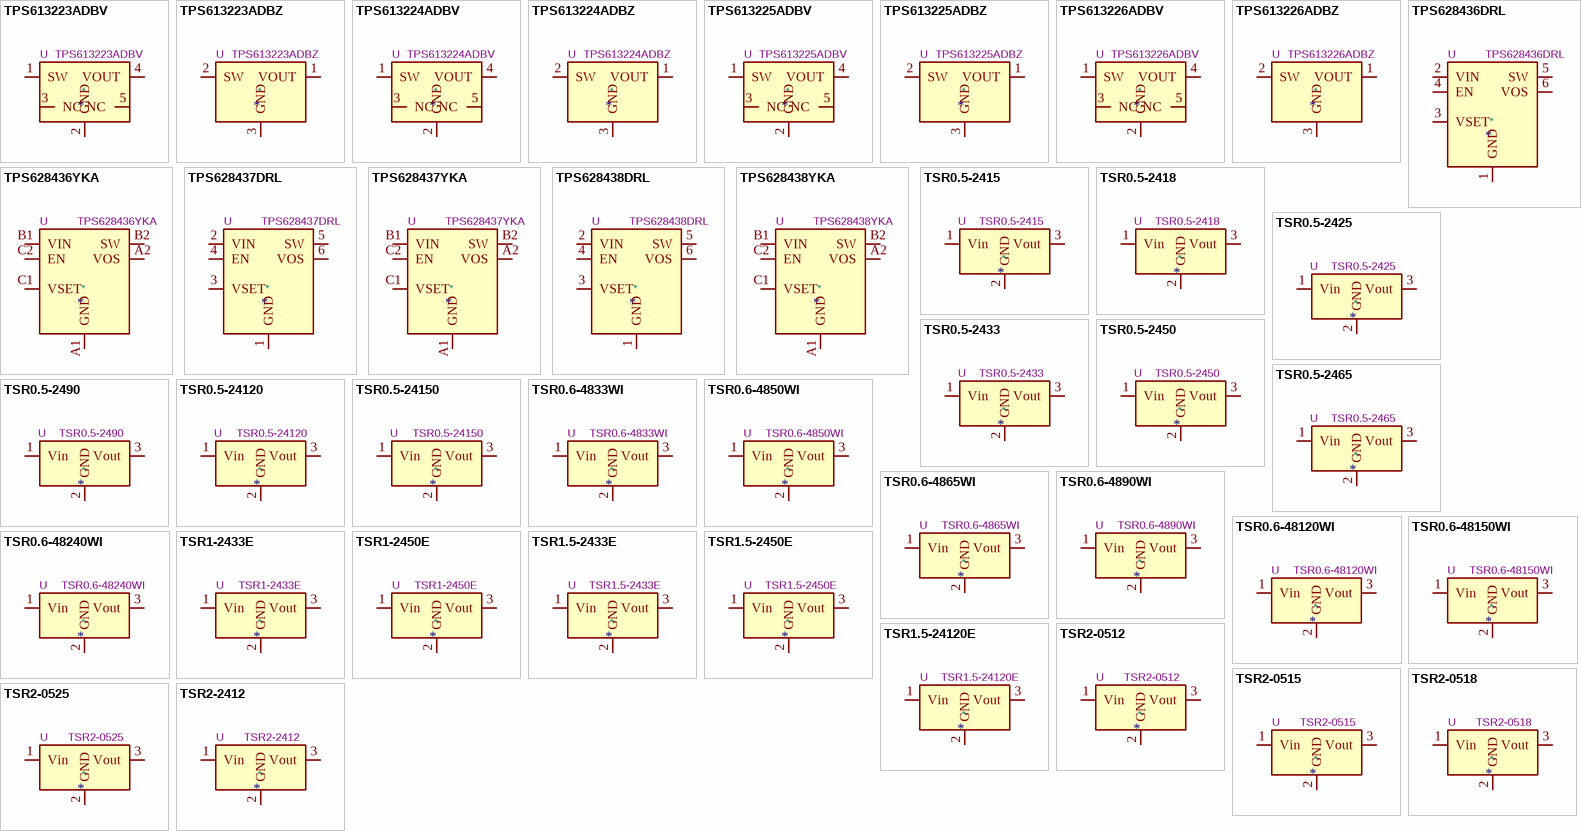
[diagram p30: symbols TPS613223ADBV to TSR2-2412]

## TPS613223ADBV
designator *  value TPS613223ADBV  Reference: U
750mA Step-Up Converter, 2V Output Voltage, 0.9-5.5V Input Voltage, SOT-23-5; ki_keywords: Boost converter; ki_fp_filters: SOT?23*; Footprint: Package_TO_SOT_SMD:SOT-23-5; Datasheet: http://www.ti.com/lit/ds/symlink/tps61322.pdf; Description_: 750mA Step-Up Converter, 2V Output Voltage, 0.9-5.5V Input Voltage, SOT-23-5
pins: 1 SW, 2 GND, 3 NC, 4 VOUT, 5 NC

## TPS613223ADBZ
designator *  value TPS613223ADBZ  Reference: U
750mA Step-Up Converter, 2V Output Voltage, 0.9-5.5V Input Voltage, SOT-23; ki_keywords: Boost converter; ki_fp_filters: SOT?23*; Footprint: Package_TO_SOT_SMD:SOT-23; Datasheet: http://www.ti.com/lit/ds/symlink/tps61322.pdf; Description_: 750mA Step-Up Converter, 2V Output Voltage, 0.9-5.5V Input Voltage, SOT-23
pins: 1 VOUT, 2 SW, 3 GND

## TPS613224ADBV
designator *  value TPS613224ADBV  Reference: U
750mA Step-Up Converter, 2.5V Output Voltage, 0.9-5.5V Input Voltage, SOT-23-5; ki_keywords: Boost converter; ki_fp_filters: SOT?23*; Footprint: Package_TO_SOT_SMD:SOT-23-5; Datasheet: http://www.ti.com/lit/ds/symlink/tps61322.pdf; Description_: 750mA Step-Up Converter, 2.5V Output Voltage, 0.9-5.5V Input Voltage, SOT-23-5
pins: 1 SW, 2 GND, 3 NC, 4 VOUT, 5 NC

## TPS613224ADBZ
designator *  value TPS613224ADBZ  Reference: U
750mA Step-Up Converter, 2.5V Output Voltage, 0.9-5.5V Input Voltage, SOT-23; ki_keywords: Boost converter; ki_fp_filters: SOT?23*; Footprint: Package_TO_SOT_SMD:SOT-23; Datasheet: http://www.ti.com/lit/ds/symlink/tps61322.pdf; Description_: 750mA Step-Up Converter, 2.5V Output Voltage, 0.9-5.5V Input Voltage, SOT-23
pins: 1 VOUT, 2 SW, 3 GND

## TPS613225ADBV
designator *  value TPS613225ADBV  Reference: U
1.2A Step-Up Converter, 3V Output Voltage, 0.9-5.5V Input Voltage, SOT-23-5; ki_keywords: Boost converter; ki_fp_filters: SOT?23*; Footprint: Package_TO_SOT_SMD:SOT-23-5; Datasheet: http://www.ti.com/lit/ds/symlink/tps61322.pdf; Description_: 1.2A Step-Up Converter, 3V Output Voltage, 0.9-5.5V Input Voltage, SOT-23-5
pins: 1 SW, 2 GND, 3 NC, 4 VOUT, 5 NC

## TPS613225ADBZ
designator *  value TPS613225ADBZ  Reference: U
1.2A Step-Up Converter, 3V Output Voltage, 0.9-5.5V Input Voltage, SOT-23; ki_keywords: Boost converter; ki_fp_filters: SOT?23*; Footprint: Package_TO_SOT_SMD:SOT-23; Datasheet: http://www.ti.com/lit/ds/symlink/tps61322.pdf; Description_: 1.2A Step-Up Converter, 3V Output Voltage, 0.9-5.5V Input Voltage, SOT-23
pins: 1 VOUT, 2 SW, 3 GND

## TPS613226ADBV
designator *  value TPS613226ADBV  Reference: U
1.2A Step-Up Converter, 3.6V Output Voltage, 0.9-5.5V Input Voltage, SOT-23-5; ki_keywords: Boost converter; ki_fp_filters: SOT?23*; Footprint: Package_TO_SOT_SMD:SOT-23-5; Datasheet: http://www.ti.com/lit/ds/symlink/tps61322.pdf; Description_: 1.2A Step-Up Converter, 3.6V Output Voltage, 0.9-5.5V Input Voltage, SOT-23-5
pins: 1 SW, 2 GND, 3 NC, 4 VOUT, 5 NC

## TPS613226ADBZ
designator *  value TPS613226ADBZ  Reference: U
1.2A Step-Up Converter, 3.6V Output Voltage, 0.9-5.5V Input Voltage, SOT-23; ki_keywords: Boost converter; ki_fp_filters: SOT?23*; Footprint: Package_TO_SOT_SMD:SOT-23; Datasheet: http://www.ti.com/lit/ds/symlink/tps61322.pdf; Description_: 1.2A Step-Up Converter, 3.6V Output Voltage, 0.9-5.5V Input Voltage, SOT-23
pins: 1 VOUT, 2 SW, 3 GND

## TPS628436DRL
designator *  value TPS628436DRL  Reference: U
600mA Step-Down Converter with DCS-Control, ultra-low Iq, 1.8-5.5 Vin, 0.4-0.8 Vout, SOT-563; ki_keywords: TI buck regulator; ki_fp_filters: SOT?563*; Footprint: Package_TO_SOT_SMD:SOT-563; Datasheet: https://www.ti.com/lit/ds/symlink/tps62843.pdf; Description_: 600mA Step-Down Converter with DCS-Control, ultra-low Iq, 1.8-5.5 Vin, 0.4-0.8 Vout, SOT-563
pins: 1 GND, 2 VIN, 3 VSET, 4 EN, 5 SW, 6 VOS

## TPS628436YKA
designator *  value TPS628436YKA  Reference: U
600mA Step-Down Converter with DCS-Control, ultra-low Iq, 1.8-5.5 Vin, 0.4-0.8 Vout, WLCSP-6; ki_keywords: TI buck regulator; ki_fp_filters: Texas*0.757x1.01mm*Layout2x3*P0.35mm*; Footprint: Package_BGA:Texas_DSBGA-6_0.757x1.01mm_Layout2x3_P0.35mm; Datasheet: https://www.ti.com/lit/ds/symlink/tps62843.pdf; Description_: 600mA Step-Down Converter with DCS-Control, ultra-low Iq, 1.8-5.5 Vin, 0.4-0.8 Vout, WLCSP-6
pins: A1 GND, A2 VOS, B1 VIN, B2 SW, C1 VSET, C2 EN

## TPS628437DRL
designator *  value TPS628437DRL  Reference: U
600mA Step-Down Converter with DCS-Control, ultra-low Iq, 1.8-5.5 Vin, 0.8-1.8 Vout, SOT-563; ki_keywords: TI buck regulator; ki_fp_filters: SOT?563*; Footprint: Package_TO_SOT_SMD:SOT-563; Datasheet: https://www.ti.com/lit/ds/symlink/tps62843.pdf; Description_: 600mA Step-Down Converter with DCS-Control, ultra-low Iq, 1.8-5.5 Vin, 0.8-1.8 Vout, SOT-563
pins: 1 GND, 2 VIN, 3 VSET, 4 EN, 5 SW, 6 VOS

## TPS628437YKA
designator *  value TPS628437YKA  Reference: U
600mA Step-Down Converter with DCS-Control, ultra-low Iq, 1.8-5.5 Vin, 0.8-1.8 Vout, WLCSP-6; ki_keywords: TI buck regulator; ki_fp_filters: Texas*0.757x1.01mm*Layout2x3*P0.35mm*; Footprint: Package_BGA:Texas_DSBGA-6_0.757x1.01mm_Layout2x3_P0.35mm; Datasheet: https://www.ti.com/lit/ds/symlink/tps62843.pdf; Description_: 600mA Step-Down Converter with DCS-Control, ultra-low Iq, 1.8-5.5 Vin, 0.8-1.8 Vout, WLCSP-6
pins: A1 GND, A2 VOS, B1 VIN, B2 SW, C1 VSET, C2 EN

## TPS628438DRL
designator *  value TPS628438DRL  Reference: U
600mA Step-Down Converter with DCS-Control, ultra-low Iq, 1.8-5.5 Vin, 1.8-3.6 Vout, SOT-563; ki_keywords: TI buck regulator; ki_fp_filters: SOT?563*; Footprint: Package_TO_SOT_SMD:SOT-563; Datasheet: https://www.ti.com/lit/ds/symlink/tps62843.pdf; Description_: 600mA Step-Down Converter with DCS-Control, ultra-low Iq, 1.8-5.5 Vin, 1.8-3.6 Vout, SOT-563
pins: 1 GND, 2 VIN, 3 VSET, 4 EN, 5 SW, 6 VOS

## TPS628438YKA
designator *  value TPS628438YKA  Reference: U
600mA Step-Down Converter with DCS-Control, ultra-low Iq, 1.8-5.5 Vin, 1.8-3.6 Vout, WLCSP-6; ki_keywords: TI buck regulator; ki_fp_filters: Texas*0.757x1.01mm*Layout2x3*P0.35mm*; Footprint: Package_BGA:Texas_DSBGA-6_0.757x1.01mm_Layout2x3_P0.35mm; Datasheet: https://www.ti.com/lit/ds/symlink/tps62843.pdf; Description_: 600mA Step-Down Converter with DCS-Control, ultra-low Iq, 1.8-5.5 Vin, 1.8-3.6 Vout, WLCSP-6
pins: A1 GND, A2 VOS, B1 VIN, B2 SW, C1 VSET, C2 EN

## TSR0.5-2415
designator *  value TSR0.5-2415  Reference: U
0.5A step-down regulator, fixed 1.5V output voltage, 4.75-32V input voltage, TO-220 compatible LM78xx replacement, SIP-3; ki_keywords: Traco non-isolated pol dcdc converter single; ki_fp_filters: Converter*DCDC*TRACO*TSR0.5*24xx*24xxx**THT*; Footprint: Converter_DCDC:Converter_DCDC_TRACO_TSR0.5-24xx_TSR0.5-24xxx_THT; Datasheet: https://www.tracopower.com/products/tsr0.5.pdf; Description_: 0.5A step-down regulator, fixed 1.5V output voltage, 4.75-32V input voltage, TO-220 compatible LM78xx replacement, SIP-3
pins: 1 Vin, 2 GND, 3 Vout

## TSR0.5-2418
designator *  value TSR0.5-2418  Reference: U
0.5A step-down regulator, fixed 1.8V output voltage, 4.75-32V input voltage, TO-220 compatible LM78xx replacement, SIP-3; ki_keywords: Traco non-isolated pol dcdc converter single; ki_fp_filters: Converter*DCDC*TRACO*TSR0.5*24xx*24xxx**THT*; Footprint: Converter_DCDC:Converter_DCDC_TRACO_TSR0.5-24xx_TSR0.5-24xxx_THT; Datasheet: https://www.tracopower.com/products/tsr0.5.pdf; Description_: 0.5A step-down regulator, fixed 1.8V output voltage, 4.75-32V input voltage, TO-220 compatible LM78xx replacement, SIP-3
pins: 1 Vin, 2 GND, 3 Vout

## TSR0.5-2425
designator *  value TSR0.5-2425  Reference: U
0.5A step-down regulator, fixed 2.5V output voltage, 4.75-32V input voltage, TO-220 compatible LM78xx replacement, SIP-3; ki_keywords: Traco non-isolated pol dcdc converter single; ki_fp_filters: Converter*DCDC*TRACO*TSR0.5*24xx*24xxx**THT*; Footprint: Converter_DCDC:Converter_DCDC_TRACO_TSR0.5-24xx_TSR0.5-24xxx_THT; Datasheet: https://www.tracopower.com/products/tsr0.5.pdf; Description_: 0.5A step-down regulator, fixed 2.5V output voltage, 4.75-32V input voltage, TO-220 compatible LM78xx replacement, SIP-3
pins: 1 Vin, 2 GND, 3 Vout

## TSR0.5-2433
designator *  value TSR0.5-2433  Reference: U
0.5A step-down regulator, fixed 3.3V output voltage, 4.75-32V input voltage, TO-220 compatible LM78xx replacement, SIP-3; ki_keywords: Traco non-isolated pol dcdc converter single; ki_fp_filters: Converter*DCDC*TRACO*TSR0.5*24xx*24xxx**THT*; Footprint: Converter_DCDC:Converter_DCDC_TRACO_TSR0.5-24xx_TSR0.5-24xxx_THT; Datasheet: https://www.tracopower.com/products/tsr0.5.pdf; Description_: 0.5A step-down regulator, fixed 3.3V output voltage, 4.75-32V input voltage, TO-220 compatible LM78xx replacement, SIP-3
pins: 1 Vin, 2 GND, 3 Vout

## TSR0.5-2450
designator *  value TSR0.5-2450  Reference: U
0.5A step-down regulator, fixed 5V output voltage, 6.5-32V input voltage, TO-220 compatible LM78xx replacement, SIP-3; ki_keywords: Traco non-isolated pol dcdc converter single; ki_fp_filters: Converter*DCDC*TRACO*TSR0.5*24xx*24xxx**THT*; Footprint: Converter_DCDC:Converter_DCDC_TRACO_TSR0.5-24xx_TSR0.5-24xxx_THT; Datasheet: https://www.tracopower.com/products/tsr0.5.pdf; Description_: 0.5A step-down regulator, fixed 5V output voltage, 6.5-32V input voltage, TO-220 compatible LM78xx replacement, SIP-3
pins: 1 Vin, 2 GND, 3 Vout

## TSR0.5-2465
designator *  value TSR0.5-2465  Reference: U
0.5A step-down regulator, fixed 6.5V output voltage, 8-32V input voltage, TO-220 compatible LM78xx replacement, SIP-3; ki_keywords: Traco non-isolated pol dcdc converter single; ki_fp_filters: Converter*DCDC*TRACO*TSR0.5*24xx*24xxx**THT*; Footprint: Converter_DCDC:Converter_DCDC_TRACO_TSR0.5-24xx_TSR0.5-24xxx_THT; Datasheet: https://www.tracopower.com/products/tsr0.5.pdf; Description_: 0.5A step-down regulator, fixed 6.5V output voltage, 8-32V input voltage, TO-220 compatible LM78xx replacement, SIP-3
pins: 1 Vin, 2 GND, 3 Vout

## TSR0.5-2490
designator *  value TSR0.5-2490  Reference: U
0.5A step-down regulator, fixed 9V output voltage, 11-32V input voltage, TO-220 compatible LM78xx replacement, SIP-3; ki_keywords: Traco non-isolated pol dcdc converter single; ki_fp_filters: Converter*DCDC*TRACO*TSR0.5*24xx*24xxx**THT*; Footprint: Converter_DCDC:Converter_DCDC_TRACO_TSR0.5-24xx_TSR0.5-24xxx_THT; Datasheet: https://www.tracopower.com/products/tsr0.5.pdf; Description_: 0.5A step-down regulator, fixed 9V output voltage, 11-32V input voltage, TO-220 compatible LM78xx replacement, SIP-3
pins: 1 Vin, 2 GND, 3 Vout

## TSR0.5-24120
designator *  value TSR0.5-24120  Reference: U
0.5A step-down regulator, fixed 12V output voltage, 15-32V input voltage, TO-220 compatible LM78xx replacement, SIP-3; ki_keywords: Traco non-isolated pol dcdc converter single; ki_fp_filters: Converter*DCDC*TRACO*TSR0.5*24xx*24xxx**THT*; Footprint: Converter_DCDC:Converter_DCDC_TRACO_TSR0.5-24xx_TSR0.5-24xxx_THT; Datasheet: https://www.tracopower.com/products/tsr0.5.pdf; Description_: 0.5A step-down regulator, fixed 12V output voltage, 15-32V input voltage, TO-220 compatible LM78xx replacement, SIP-3
pins: 1 Vin, 2 GND, 3 Vout

## TSR0.5-24150
designator *  value TSR0.5-24150  Reference: U
0.5A step-down regulator, fixed 15V output voltage, 18-32V input voltage, TO-220 compatible LM78xx replacement, SIP-3; ki_keywords: Traco non-isolated pol dcdc converter single; ki_fp_filters: Converter*DCDC*TRACO*TSR0.5*24xx*24xxx**THT*; Footprint: Converter_DCDC:Converter_DCDC_TRACO_TSR0.5-24xx_TSR0.5-24xxx_THT; Datasheet: https://www.tracopower.com/products/tsr0.5.pdf; Description_: 0.5A step-down regulator, fixed 15V output voltage, 18-32V input voltage, TO-220 compatible LM78xx replacement, SIP-3
pins: 1 Vin, 2 GND, 3 Vout

## TSR0.6-4833WI
designator *  value TSR0.6-4833WI  Reference: U
0.6A step-down regulator, fixed 3.3V output voltage, 9-72V input voltage, TO-220 compatible LM78xx replacement; ki_keywords: Traco non-isolated pol dcdc converter single 0.6A; ki_fp_filters: Converter*DCDC*TRACO*TSR0.6*48xxWI*48xxxWI*THT*; Footprint: Converter_DCDC:Converter_DCDC_TRACO_TSR0.6-48xxWI_TSR0.6-48xxxWI_THT; Datasheet: https://www.tracopower.com/products/tsr0.6wi.pdf; Description_: 0.6A step-down regulator, fixed 3.3V output voltage, 9-72V input voltage, TO-220 compatible LM78xx replacement
pins: 1 Vin, 2 GND, 3 Vout

## TSR0.6-4850WI
designator *  value TSR0.6-4850WI  Reference: U
0.6A step-down regulator, fixed 5V output voltage, 9-72V input voltage, TO-220 compatible LM78xx replacement; ki_keywords: Traco non-isolated pol dcdc converter single 0.6A; ki_fp_filters: Converter*DCDC*TRACO*TSR0.6*48xxWI*48xxxWI*THT*; Footprint: Converter_DCDC:Converter_DCDC_TRACO_TSR0.6-48xxWI_TSR0.6-48xxxWI_THT; Datasheet: https://www.tracopower.com/products/tsr0.6wi.pdf; Description_: 0.6A step-down regulator, fixed 5V output voltage, 9-72V input voltage, TO-220 compatible LM78xx replacement
pins: 1 Vin, 2 GND, 3 Vout

## TSR0.6-4865WI
designator *  value TSR0.6-4865WI  Reference: U
0.6A step-down regulator, fixed 6.5V output voltage, 9-72V input voltage, TO-220 compatible LM78xx replacement; ki_keywords: Traco non-isolated pol dcdc converter single 0.6A; ki_fp_filters: Converter*DCDC*TRACO*TSR0.6*48xxWI*48xxxWI*THT*; Footprint: Converter_DCDC:Converter_DCDC_TRACO_TSR0.6-48xxWI_TSR0.6-48xxxWI_THT; Datasheet: https://www.tracopower.com/products/tsr0.6wi.pdf; Description_: 0.6A step-down regulator, fixed 6.5V output voltage, 9-72V input voltage, TO-220 compatible LM78xx replacement
pins: 1 Vin, 2 GND, 3 Vout

## TSR0.6-4890WI
designator *  value TSR0.6-4890WI  Reference: U
0.6A step-down regulator, fixed 9V output voltage, 14-72V input voltage, TO-220 compatible LM78xx replacement; ki_keywords: Traco non-isolated pol dcdc converter single 0.6A; ki_fp_filters: Converter*DCDC*TRACO*TSR0.6*48xxWI*48xxxWI*THT*; Footprint: Converter_DCDC:Converter_DCDC_TRACO_TSR0.6-48xxWI_TSR0.6-48xxxWI_THT; Datasheet: https://www.tracopower.com/products/tsr0.6wi.pdf; Description_: 0.6A step-down regulator, fixed 9V output voltage, 14-72V input voltage, TO-220 compatible LM78xx replacement
pins: 1 Vin, 2 GND, 3 Vout

## TSR0.6-48120WI
designator *  value TSR0.6-48120WI  Reference: U
0.6A step-down regulator, fixed 12V output voltage, 17-72V input voltage, TO-220 compatible LM78xx replacement; ki_keywords: Traco non-isolated pol dcdc converter single 0.6A; ki_fp_filters: Converter*DCDC*TRACO*TSR0.6*48xxWI*48xxxWI*THT*; Footprint: Converter_DCDC:Converter_DCDC_TRACO_TSR0.6-48xxWI_TSR0.6-48xxxWI_THT; Datasheet: https://www.tracopower.com/products/tsr0.6wi.pdf; Description_: 0.6A step-down regulator, fixed 12V output voltage, 17-72V input voltage, TO-220 compatible LM78xx replacement
pins: 1 Vin, 2 GND, 3 Vout

## TSR0.6-48150WI
designator *  value TSR0.6-48150WI  Reference: U
0.6A step-down regulator, fixed 15V output voltage, 20-72V input voltage, TO-220 compatible LM78xx replacement; ki_keywords: Traco non-isolated pol dcdc converter single 0.6A; ki_fp_filters: Converter*DCDC*TRACO*TSR0.6*48xxWI*48xxxWI*THT*; Footprint: Converter_DCDC:Converter_DCDC_TRACO_TSR0.6-48xxWI_TSR0.6-48xxxWI_THT; Datasheet: https://www.tracopower.com/products/tsr0.6wi.pdf; Description_: 0.6A step-down regulator, fixed 15V output voltage, 20-72V input voltage, TO-220 compatible LM78xx replacement
pins: 1 Vin, 2 GND, 3 Vout

## TSR0.6-48240WI
designator *  value TSR0.6-48240WI  Reference: U
0.4A step-down regulator, fixed 24V output voltage, 33-72V input voltage, TO-220 compatible LM78xx replacement; ki_keywords: Traco non-isolated pol dcdc converter single 0.4A; ki_fp_filters: Converter*DCDC*TRACO*TSR0.6*48xxWI*48xxxWI*THT*; Footprint: Converter_DCDC:Converter_DCDC_TRACO_TSR0.6-48xxWI_TSR0.6-48xxxWI_THT; Datasheet: https://www.tracopower.com/products/tsr0.6wi.pdf; Description_: 0.4A step-down regulator, fixed 24V output voltage, 33-72V input voltage, TO-220 compatible LM78xx replacement
pins: 1 Vin, 2 GND, 3 Vout

## TSR1-2433E
designator *  value TSR1-2433E  Reference: U
1A step-down regulator, fixed 3.3V output voltage, 6-36V input voltage, TO-220 compatible LM78xx replacement; ki_keywords: Traco non-isolated not-isolated pol dc-dc converter regulator single 1A; ki_fp_filters: Converter*DCDC*TRACO*TSR1*xxxxE*THT*; Footprint: Converter_DCDC:Converter_DCDC_TRACO_TSR1-xxxxE_THT; Datasheet: https://www.tracopower.com/products/tsr1e.pdf; Description_: 1A step-down regulator, fixed 3.3V output voltage, 6-36V input voltage, TO-220 compatible LM78xx replacement
pins: 1 Vin, 2 GND, 3 Vout

## TSR1-2450E
designator *  value TSR1-2450E  Reference: U
1A step-down regulator, fixed 5V output voltage, 7-36V input voltage, TO-220 compatible LM78xx replacement; ki_keywords: Traco non-isolated not-isolated pol dc-dc converter regulator single 1A; ki_fp_filters: Converter*DCDC*TRACO*TSR1*xxxxE*THT*; Footprint: Converter_DCDC:Converter_DCDC_TRACO_TSR1-xxxxE_THT; Datasheet: https://www.tracopower.com/products/tsr1e.pdf; Description_: 1A step-down regulator, fixed 5V output voltage, 7-36V input voltage, TO-220 compatible LM78xx replacement
pins: 1 Vin, 2 GND, 3 Vout

## TSR1.5-2433E
designator *  value TSR1.5-2433E  Reference: U
1.5A step-down regulator, fixed 3.3V output voltage, 7-36V input voltage, TO-220 compatible LM78xx replacement, SIP-3; ki_keywords: Traco non-isolated pol dcdc converter single; ki_fp_filters: Converter*DCDC*TRACO*TSR1.5*24xxE*24120E*THT*; Footprint: Converter_DCDC:Converter_DCDC_TRACO_TSR1.5-24xxE_24120E_THT; Datasheet: https://www.tracopower.com/products/tsr1.5e.pdf; Description_: 1.5A step-down regulator, fixed 3.3V output voltage, 7-36V input voltage, TO-220 compatible LM78xx replacement, SIP-3
pins: 1 Vin, 2 GND, 3 Vout

## TSR1.5-2450E
designator *  value TSR1.5-2450E  Reference: U
1.5A step-down regulator, fixed 5V output voltage, 7-36V input voltage, TO-220 compatible LM78xx replacement, SIP-3; ki_keywords: Traco non-isolated pol dcdc converter single; ki_fp_filters: Converter*DCDC*TRACO*TSR1.5*24xxE*24120E*THT*; Footprint: Converter_DCDC:Converter_DCDC_TRACO_TSR1.5-24xxE_24120E_THT; Datasheet: https://www.tracopower.com/products/tsr1.5e.pdf; Description_: 1.5A step-down regulator, fixed 5V output voltage, 7-36V input voltage, TO-220 compatible LM78xx replacement, SIP-3
pins: 1 Vin, 2 GND, 3 Vout

## TSR1.5-24120E
designator *  value TSR1.5-24120E  Reference: U
1A step-down regulator, fixed 12V output voltage, 15-36V input voltage, TO-220 compatible LM78xx replacement, SIP-3; ki_keywords: Traco non-isolated pol dcdc converter single; ki_fp_filters: Converter*DCDC*TRACO*TSR1.5*24xxE*24120E*THT*; Footprint: Converter_DCDC:Converter_DCDC_TRACO_TSR1.5-24xxE_24120E_THT; Datasheet: https://www.tracopower.com/products/tsr1.5e.pdf; Description_: 1A step-down regulator, fixed 12V output voltage, 15-36V input voltage, TO-220 compatible LM78xx replacement, SIP-3
pins: 1 Vin, 2 GND, 3 Vout

## TSR2-0512
designator *  value TSR2-0512  Reference: U
2A step-down regulator, fixed 1.2V output voltage, 3-5.5V input voltage, TO-220 compatible LM78xx replacement, SIP-3; ki_keywords: Traco non-isolated pol dcdc converter single; ki_fp_filters: Converter*DCDC*TRACO*TSR2*xxxx**THT*; Footprint: Converter_DCDC:Converter_DCDC_TRACO_TSR2-xxxx_THT; Datasheet: https://www.tracopower.com/products/tsr2.pdf; Description_: 2A step-down regulator, fixed 1.2V output voltage, 3-5.5V input voltage, TO-220 compatible LM78xx replacement, SIP-3
pins: 1 Vin, 2 GND, 3 Vout

## TSR2-0515
designator *  value TSR2-0515  Reference: U
2A step-down regulator, fixed 1.5V output voltage, 3-5.5V input voltage, TO-220 compatible LM78xx replacement, SIP-3; ki_keywords: Traco non-isolated pol dcdc converter single; ki_fp_filters: Converter*DCDC*TRACO*TSR2*xxxx**THT*; Footprint: Converter_DCDC:Converter_DCDC_TRACO_TSR2-xxxx_THT; Datasheet: https://www.tracopower.com/products/tsr2.pdf; Description_: 2A step-down regulator, fixed 1.5V output voltage, 3-5.5V input voltage, TO-220 compatible LM78xx replacement, SIP-3
pins: 1 Vin, 2 GND, 3 Vout

## TSR2-0518
designator *  value TSR2-0518  Reference: U
2A step-down regulator, fixed 1.8V output voltage, 3-5.5V input voltage, TO-220 compatible LM78xx replacement, SIP-3; ki_keywords: Traco non-isolated pol dcdc converter single; ki_fp_filters: Converter*DCDC*TRACO*TSR2*xxxx**THT*; Footprint: Converter_DCDC:Converter_DCDC_TRACO_TSR2-xxxx_THT; Datasheet: https://www.tracopower.com/products/tsr2.pdf; Description_: 2A step-down regulator, fixed 1.8V output voltage, 3-5.5V input voltage, TO-220 compatible LM78xx replacement, SIP-3
pins: 1 Vin, 2 GND, 3 Vout

## TSR2-0525
designator *  value TSR2-0525  Reference: U
2A step-down regulator, fixed 2.5V output voltage, 3.8-5.5V input voltage, TO-220 compatible LM78xx replacement, SIP-3; ki_keywords: Traco non-isolated pol dcdc converter single; ki_fp_filters: Converter*DCDC*TRACO*TSR2*xxxx**THT*; Footprint: Converter_DCDC:Converter_DCDC_TRACO_TSR2-xxxx_THT; Datasheet: https://www.tracopower.com/products/tsr2.pdf; Description_: 2A step-down regulator, fixed 2.5V output voltage, 3.8-5.5V input voltage, TO-220 compatible LM78xx replacement, SIP-3
pins: 1 Vin, 2 GND, 3 Vout

## TSR2-2412
designator *  value TSR2-2412  Reference: U
2A step-down regulator, fixed 1.2V output voltage, 4.6-36V input voltage, TO-220 compatible LM78xx replacement, SIP-3; ki_keywords: Traco non-isolated pol dcdc converter single; ki_fp_filters: Converter*DCDC*TRACO*TSR2*xxxx**THT*; Footprint: Converter_DCDC:Converter_DCDC_TRACO_TSR2-xxxx_THT; Datasheet: https://www.tracopower.com/products/tsr2.pdf; Description_: 2A step-down regulator, fixed 1.2V output voltage, 4.6-36V input voltage, TO-220 compatible LM78xx replacement, SIP-3
pins: 1 Vin, 2 GND, 3 Vout

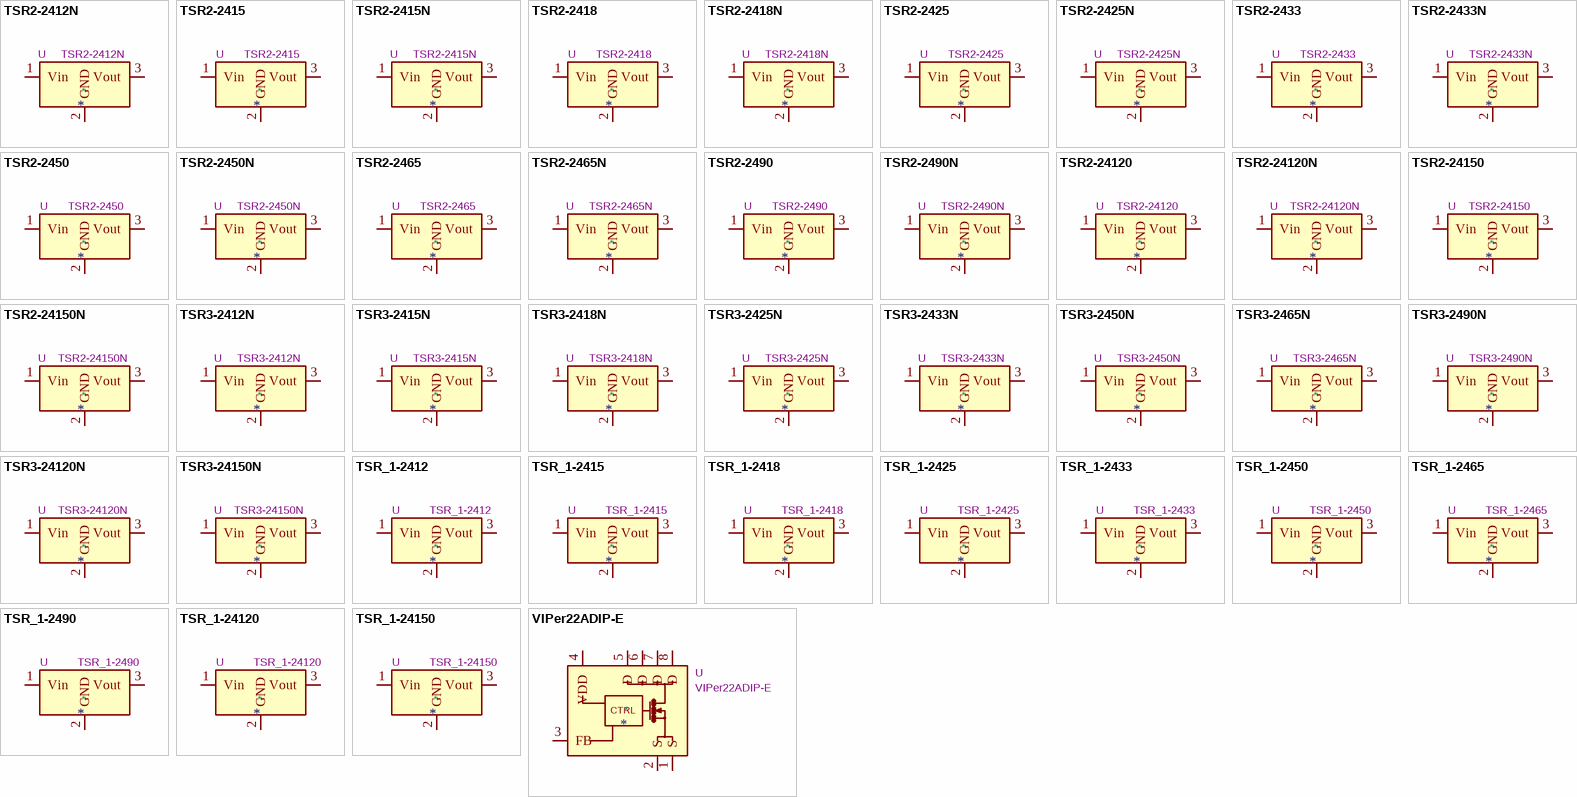
[diagram p31: symbols TSR2-2412N to VIPer22ADIP-E]

## TSR2-2412N
designator *  value TSR2-2412N  Reference: U
2A step-down regulator, fixed 1.2V output voltage, 4.6-28V input voltage, TO-220 compatible LM78xx replacement; ki_keywords: Traco non-isolated pol dcdc converter single; ki_fp_filters: Converter*DCDC*TRACO*TSR2*24xxN*24xxxN*THT*; Footprint: Converter_DCDC:Converter_DCDC_TRACO_TSR2-24xxN_TSR2-24xxxN_THT; Datasheet: https://www.tracopower.com/products/tsr2n.pdf; Description_: 2A step-down regulator, fixed 1.2V output voltage, 4.6-28V input voltage, TO-220 compatible LM78xx replacement
pins: 1 Vin, 2 GND, 3 Vout

## TSR2-2415
designator *  value TSR2-2415  Reference: U
2A step-down regulator, fixed 1.5V output voltage, 4.6-36V input voltage, TO-220 compatible LM78xx replacement, SIP-3; ki_keywords: Traco non-isolated pol dcdc converter single; ki_fp_filters: Converter*DCDC*TRACO*TSR2*xxxx**THT*; Footprint: Converter_DCDC:Converter_DCDC_TRACO_TSR2-xxxx_THT; Datasheet: https://www.tracopower.com/products/tsr2.pdf; Description_: 2A step-down regulator, fixed 1.5V output voltage, 4.6-36V input voltage, TO-220 compatible LM78xx replacement, SIP-3
pins: 1 Vin, 2 GND, 3 Vout

## TSR2-2415N
designator *  value TSR2-2415N  Reference: U
2A step-down regulator, fixed 1.5V output voltage, 4.6-32V input voltage, TO-220 compatible LM78xx replacement; ki_keywords: Traco non-isolated pol dcdc converter single; ki_fp_filters: Converter*DCDC*TRACO*TSR2*24xxN*24xxxN*THT*; Footprint: Converter_DCDC:Converter_DCDC_TRACO_TSR2-24xxN_TSR2-24xxxN_THT; Datasheet: https://www.tracopower.com/products/tsr2n.pdf; Description_: 2A step-down regulator, fixed 1.5V output voltage, 4.6-32V input voltage, TO-220 compatible LM78xx replacement
pins: 1 Vin, 2 GND, 3 Vout